# Altium footprint library VioletofSun.PcbLib: 319 footprints (part 11 of 20)
Each footprint in its own frame and in the unit in brackets; x right, y up, seen from the top. Pads: shape width x height; smd on the part's side, far side on the other; paste and mask are expansions set on the pad; w line width, h text height; cw(c..) or ccw(c..) is an arc to the next point about the centre after c.
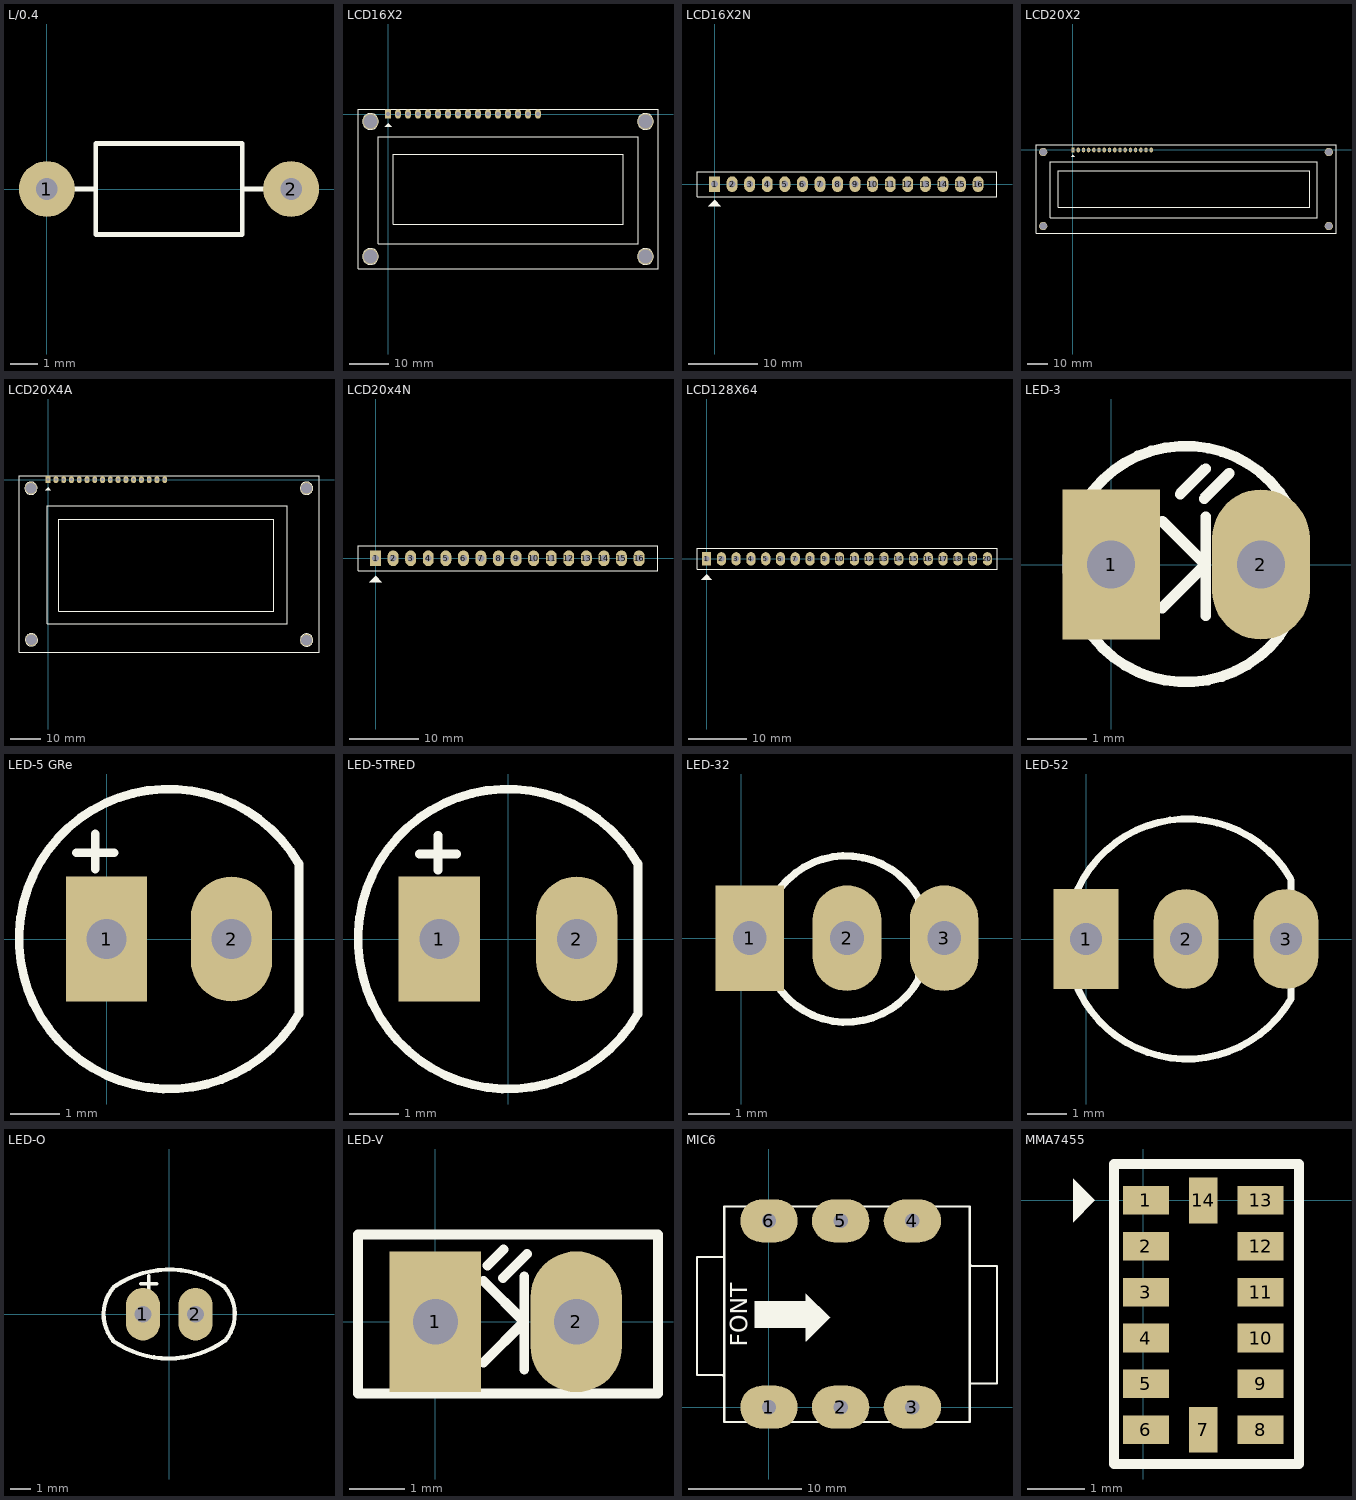
[diagram p10: the footprints below, top view; thin cyan lines are the x and y axes]

## L/0.4 [mil] "Inductor , 2 Pin, L 350mil, W 150 mil"
height 150
pads (2):
  round 80 hole 31: 1(0,0) 2(350,0)
Top Overlay:
  lines w7: 70,0 40,0 70,0 ; 70,0 70,65 280,65 280,0 ; 70,0 70,-65 280,-65 280,0 ; 280,0 310,0 280,0

## LCD16X2 [mil] "LCD dipslay 16x2, 16 pin"
height 400
pads (20):
  rect 62x90 hole 36: 1(0,0)
  oval 62x90 hole 36: 2(100,0) 3(200,0) 4(300,0) 5(400,0) 6(500,0) 7(600,0) 8(700,0) 9(800,0) 10(900,0) 11(1000,0) 12(1100,0) 13(1200,0) 14(1300,0) 15(1400,0) 16(1500,0)
  round 157.48 hole 137.8: "Hole 0"(-175,-1425) "Hole 0"(-175,-75) "Hole 0"(2575,-1425) "Hole 0"(2575,-75)
Top Overlay:
  circle w7: c-175,-1425 r79.06
  circle w7: c-175,-75 r79.06
  circle w7: c2575,-75 r79.06
  circle w7: c2575,-1425 r79.06
  region: 0,-90 -35,-125 35,-125
  lines w7: -300,-1550 2700,-1550 2700,50 -300,50 -300,-1550 ; -100,-1300 2500,-1300 2500,-225 -100,-225 -100,-1300 ; 50,-1100 2350,-1100 2350,-400 50,-400 50,-1100
3D body: height 414, standoff -106, extent -314.65,-1360 2854.65,77.01

## LCD16X2N [mil] "LCD dipslay 16x2, 16 pin"
height 400
pads (16):
  rect 62x90 hole 39: 1(0,0)
  oval 62x90 hole 39: 2(100,0) 3(200,0) 4(300,0) 5(400,0) 6(500,0) 7(600,0) 8(700,0) 9(800,0) 10(900,0) 11(1000,0) 12(1100,0) 13(1200,0) 14(1300,0) 15(1400,0) 16(1500,0)
Top Overlay:
  region: 0,-90 -35,-125 35,-125
  lines w7: -100,-71 1608,-71 1608,70 -100,70 -100,-71

## LCD20X2 [mil] "LCD dipslay 20x2, 16 pin"
height 400
pads (20):
  rect 62x90 hole 36: 1(0,0)
  oval 62x90 hole 36: 2(100,0) 3(200,0) 4(300,0) 5(400,0) 6(500,0) 7(600,0) 8(700,0) 9(800,0) 10(900,0) 11(1000,0) 12(1100,0) 13(1200,0) 14(1300,0) 15(1400,0) 16(1500,0)
  round 157.48 hole 137.8: "Hole 0"(-570.87,-1456.69) "Hole 0"(-570.87,-39.37) "Hole 0"(4901.57,-1456.69) "Hole 0"(4901.57,-39.37)
Top Overlay:
  region: 0,-90 -35,-125 35,-125
  lines w7: -708.66,-1594.49 -708.66,100 5039.37,100 5039.37,-1594.49 -708.66,-1594.49 ; -436,-1300 -436,-225 4682,-225 4682,-1300 -436,-1300 ; -286,-1100 -286,-400 4532,-400 4532,-1100 -286,-1100
3D body: height 421, standoff -183, extent -670,-1487.5 7525,87.5

## LCD20X4A [mil] "LCD dipslay 20x4, 16 pin"
height 400
pads (20):
  rect 62x90 hole 39: 1(0,0)
  oval 62x90 hole 39: 2(100,0) 3(200,0) 4(300,0) 5(400,0) 6(500,0) 7(600,0) 8(700,0) 9(800,0) 10(900,0) 11(1000,0) 12(1100,0) 13(1200,0) 14(1300,0) 15(1400,0) 16(1500,0)
  round 157.48 hole 137.8: "Hole 0"(-220,-110) "Hole 0"(-215,-2060) "Hole 0"(3325,-2065) "Hole 0"(3325,-110)
Top Overlay:
  circle w7: c-215.06,-2061 r79.06
  circle w7: c-221.06,-110 r79.06
  circle w7: c3324.94,-110 r79.06
  circle w7: c3324.94,-2063 r79.06
  region: 0,-100 -35,-135 35,-135
  lines w7: -375,-2220 -375,50 3485,50 3485,-2220 -374,-2220 ; -11,-1852 3076,-1852 3076,-337 -11,-337 -11,-1852 ; 139,-1695 2905,-1695 2905,-512 139,-512 139,-1695

## LCD20x4N [mil] "LCD dipslay 20x4, 16 pin"
height 400
pads (16):
  rect 62x90 hole 39: 1(0,0)
  oval 62x90 hole 39: 2(100,0) 3(200,0) 4(300,0) 5(400,0) 6(500,0) 7(600,0) 8(700,0) 9(800,0) 10(900,0) 11(1000,0) 12(1100,0) 13(1200,0) 14(1300,0) 15(1400,0) 16(1500,0)
Top Overlay:
  region: 0,-100 -35,-135 35,-135
  lines w7: -100,-71 1608,-71 1608,70 -100,70 -100,-71

## LCD128X64 [mil] "LCD Graphic 128x64, 20 pin"
height 400
pads (20):
  rect 62x90 hole 39: 1(0,0)
  oval 62x90 hole 39: 2(100,0) 3(200,0) 4(300,0) 5(400,0) 6(500,0) 7(600,0) 8(700,0) 9(800,0) 10(900,0) 11(1000,0) 12(1100,0) 13(1200,0) 14(1300,0) 15(1400,0) 16(1500,0) 17(1600,0) 18(1700,0) 19(1800,0) 20(1900,0)
Top Overlay:
  region: 0,-105 -35,-140 35,-140
  lines w7: -65,-71 1965,-71 1965,70 -65,70 -65,-71

## LED-3 [mil] "LED 2 PIN, 3ly Only colour"
height 300
pads (2):
  rect 65x100 hole 32: 1(0,0)
  oval 65x100 hole 32: 2(100,0)
Top Overlay:
  lines w7: 34,-29 63,0 34,29 ; 46,47 63,64 ; 62,44 79,61 ; 63,-34 63,32 ; 117.92,-39.35 117.92,39.84
  lines w7.01: 117.57,-39.74 cw(c49.8,0.35) 117.72,40.19
3D body: height 255.91, standoff -78.74, extent -28.9,-74.61 108.9,75

## LED-5 GRe [mil] "LED 2 PIN, 5 ly , Only colour,pin to pin 100mil"
height 300
pads (2):
  rect 65x100 hole 32: 1(0,0)
  oval 65x100 hole 32: 2(100,0)
Top Overlay:
  lines w7: -24,69 6,69 ; -9,56 -9,84 ; 153.51,60.71 ccw(c50,0) 153.94,-59.97 ; 154,-59 154,60
3D body: height 386.85, standoff -67.48, extent -54.33,-103.66 154.33,105

## LED-5TRED [mil] "LED 2 PIN, 5 ly , Only colour, pin to pin 110mil"
height 300
pads (2):
  rect 65x100 hole 32: 1(-55,0)
  oval 65x100 hole 32: 2(55,0)
Top Overlay:
  lines w7: -71,68 -41,68 ; -56,55 -56,83 ; 103.51,60.71 ccw(c0,0) 103.94,-59.97 ; 104,-59 104,60
3D body: height 484.75, standoff -97.93, extent -115.69,-117 97.69,119.99

## LED-32 [mil] "LED 3 PIN, 3ly Two colour"
height 300
pads (3):
  rect 65x100 hole 32: 1(8,0)
  oval 65x100 hole 32: 2(100,0) 3(192,0)
Top Overlay:
  lines w7: 168,-39 168,37
  lines w7.01: 167.87,37.48 ccw(c99.08,-0.84) 167.97,-38.98

## LED-52 [mil] "LED 3 PIN, 5 ly , Two colour"
height 300
pads (3):
  rect 65x100 hole 32: 1(0,0)
  oval 65x100 hole 32: 2(100,0) 3(200,0)
Top Overlay:
  lines w7: 204.51,60.71 ccw(c101,0) 204.94,-59.97 ; 205,-59 205,59

## LED-O [mil] "LED 2 PIN,  Ovan Only colour, pin to pin 110mil"
height 300
pads (2):
  oval 65x100 hole 32: 1(-50,0) 2(50,0)
Top Overlay:
  lines w7: -54,58 -24,58 ; -39,43 -39,73
  lines w8: -106.82,-49.85 cw(c-47,0) -104.5,52.5 ; -106.38,-51.11 ccw(c-0.81,100.81) 104.97,-50.96 ; -102.83,53.79 cw(c0,-100) 103.93,53.04 ; 104.5,52.5 cw(c47,0) 106.82,-49.85

## LED-V [mil] "LED 2 PIN, Rectang Only colour"
height 300
pads (2):
  rect 65x100 hole 32: 1(0,0)
  oval 65x100 hole 32: 2(100,0)
Top Overlay:
  lines w7: 34,-29 63,0 34,29 ; 37,40 48.3,51.3 ; 48,31 65,48 ; 63,-34 63,32 ; -55,-51 -55,62 158,62 158,-51 -55,-51

## MIC6 [mil] "Jac Mic 6 pin to"
pads (6):
  oval 200x150 hole 50: 1(0,0) 2(250,0) 3(500,0) 4(500,650) 5(250,650) 6(0,650)
Top Overlay:
  region: -50,369 -50,277 130,277 129,278 129,230 130,230 212,312 213,312 129,396 129,369
  lines w7: -156,-51 -156,699 ; -156,89 -156,525 -158,523 -251,523 -251,112 -162,112 -156,106 ; -156,700 700,700 700,590 ; -155,-52 -154,-51 -153,-52 700,-52 700,82 ; 700,499 706,493 795,493 795,82 702,82 700,80 700,594
  text "FONT" at -75,210 h60

## MMA7455 [mm]
pads (14):
  rect 0.8x0.5 smd: 1(0.051,0) 2(0.051,-0.8) 3(0.051,-1.6) 4(0.051,-2.4) 5(0.051,-3.2) 6(0.051,-4) 8(2.051,-4) 9(2.051,-3.2) 10(2.051,-2.4) 11(2.051,-1.6) 12(2.051,-0.8) 13(2.051,0)
  rect 0.5x0.8 smd: 7(1.051,-4) 14(1.051,0)
Top Overlay:
  region: -1.219,0.381 -0.838,0 -1.219,-0.381
  lines w0.178: -0.508,-4.572 -0.508,0.635 2.718,0.635 2.718,-4.597 ; 2.718,-4.597 -0.508,-4.597 2.718,-4.597